# Altium footprint library DS1120-48M0R13.PcbLib: 1 footprints
Each footprint in its own frame and in the unit in brackets; x right, y up, seen from the top. Pads: shape width x height; smd on the part's side, far side on the other; paste and mask are expansions set on the pad; w line width, h text height; cw(c..) or ccw(c..) is an arc to the next point about the centre after c.
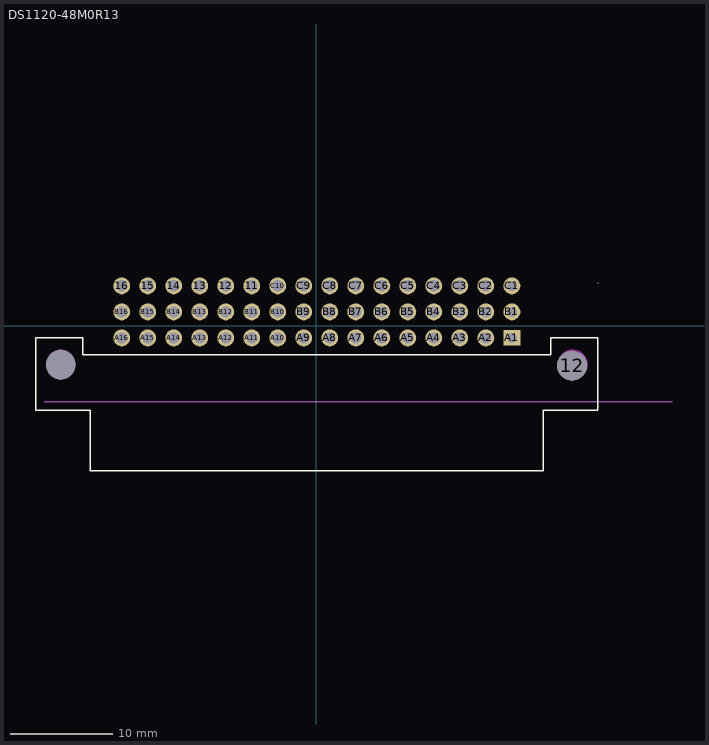
[diagram p0: the footprint, top view; thin cyan lines are the x and y axes]

## DS1120-48M0R13 [mm]
pads (51):
  round 1.65 hole 1.1 mask+0.102: 11(-6.315,3.895) 12(-8.855,3.895) 13(-11.395,3.895) 14(-13.934,3.895) 15(-16.474,3.895) 16(-19.014,3.895) A2(16.545,-1.185) A3(14.005,-1.185) A4(11.465,-1.185) A5(8.925,-1.185) A6(6.385,-1.185) A7(3.845,-1.185) A8(1.305,-1.185) A9(-1.235,-1.185) A10(-3.775,-1.185) A11(-6.315,-1.185) A12(-8.855,-1.185) A13(-11.395,-1.185) A14(-13.934,-1.185) A15(-16.474,-1.185) A16(-19.014,-1.185) B2(16.545,1.355) B3(14.005,1.355) B4(11.465,1.355) B5(8.925,1.355) B6(6.385,1.355) B7(3.845,1.355) B8(1.305,1.355) B9(-1.235,1.355) B10(-3.775,1.355) B11(-6.315,1.355) B12(-8.855,1.355) B13(-11.395,1.355) B14(-13.934,1.355) B15(-16.474,1.355) B16(-19.014,1.355) C2(16.545,3.895) C3(14.005,3.895) C4(11.465,3.895) C5(8.925,3.895) C6(6.385,3.895) C7(3.845,3.895) C8(1.305,3.895) C9(-1.235,3.895) C10(-3.775,3.895)
  round 2.9 all layers, no hole: 12(24.963,-3.895)
  rect 1.65x1.524 hole 1: A1(19.085,-1.185)
  round 1.65 hole 1: B1(19.085,1.355) C1(19.085,3.895)
  round 0 hole 2.9 unplated: ""(-24.963,-3.795) ""(24.963,-3.895)
Top Layer:
  text "DS1120-48M0R13" at -26.112,-16.085 h1.52
Top Overlay:
  lines w0.15: -27.397,-8.239 -22.095,-8.239 -22.095,-14.139 22.165,-14.139 22.165,-8.239 27.467,-8.239 27.467,-1.164 22.895,-1.164 22.895,-2.815 -22.825,-2.815 -22.825,-1.164 -25.471,-1.164 -27.397,-1.164 -27.397,-8.238
Keep-Out Layer:
  circle w0.025: c25.035,-3.785 r1.4
  circle w0.025: c-24.965,-3.785 r1.4
  region: 26.435,-3.785 26.435,-3.969 26.34,-4.325 26.156,-4.645 25.895,-4.905 25.576,-5.09 25.22,-5.185 24.851,-5.185 24.495,-5.09 24.176,-4.905 23.915,-4.645 23.731,-4.325 23.635,-3.969 23.635,-3.785 23.635,-3.601 23.731,-3.245 23.915,-2.925 24.176,-2.665 24.495,-2.48 24.851,-2.385 25.22,-2.385 25.576,-2.48 25.895,-2.665 26.156,-2.925 26.34,-3.245 26.435,-3.601
  region: -23.565,-3.785 -23.565,-3.969 -23.66,-4.325 -23.844,-4.645 -24.105,-4.905 -24.424,-5.09 -24.78,-5.185 -25.149,-5.185 -25.505,-5.09 -25.824,-4.905 -26.085,-4.645 -26.269,-4.325 -26.365,-3.969 -26.365,-3.785 -26.365,-3.601 -26.269,-3.245 -26.085,-2.925 -25.824,-2.665 -25.505,-2.48 -25.149,-2.385 -24.78,-2.385 -24.424,-2.48 -24.105,-2.665 -23.844,-2.925 -23.66,-3.245 -23.565,-3.601
Mechanical 1:
  circle w0.025: c25.035,-3.785 r1.4
  circle w0.025: c-24.965,-3.785 r1.4
Mechanical 6:
  circle w1.4: c-24.965,-3.785 r0.7
Mechanical 13:
  lines w0.127: -26.587,-7.439 34.737,-7.439
  text "PCB EDGE" at 27.487,-7.179 h1
Mechanical 15:
  drawing of 49 lines, arcs and shapes, not listed
3D body "DS1120-48M-R13.stp": height 9.41, standoff -2.74, extent -26.612,-13.875 26.728,4.235